# EAGLE library part ATSAMC21E18A (library washuracing)
5-Volt 32-Bit ARM Cortex M0+ MCU with CAN-FD
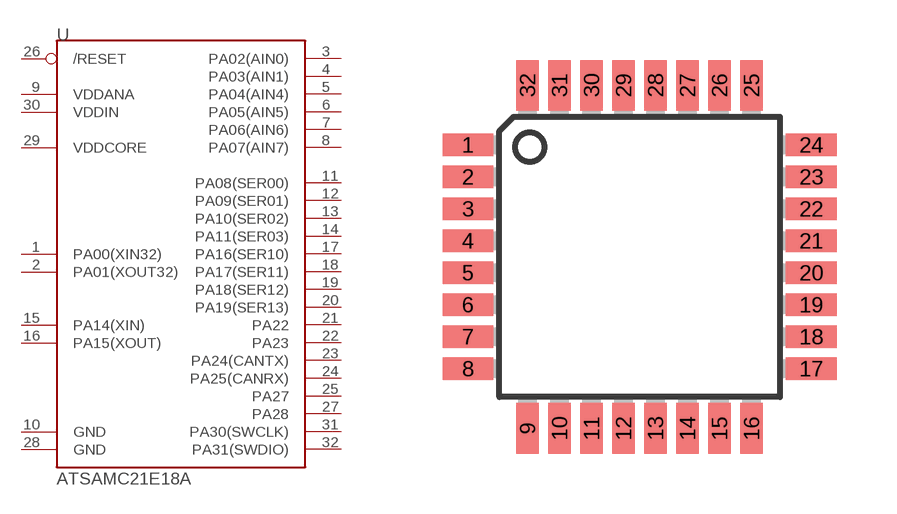
[diagram p0: symbol with the pads of TQFP32-08; footprint TQFP32-08]

Designator prefix U

## ATSAMC21E18A-AU  [TQFP32-08]
1  PA00(XIN32)
2  PA01(XOUT32)
3  PA02(AIN0)
4  PA03(AIN1)
5  PA04(AIN4)
6  PA05(AIN5)
7  PA06(AIN6)
8  PA07(AIN7)
9  VDDANA  pwr
10  GND  pwr
11  PA08(SER00)
12  PA09(SER01)
13  PA10(SER02)
14  PA11(SER03)
15  PA14(XIN)
16  PA15(XOUT)
17  PA16(SER10)
18  PA17(SER11)
19  PA18(SER12)
20  PA19(SER13)
21  PA22
22  PA23
23  PA24(CANTX)
24  PA25(CANRX)
25  PA27
26  /RESET  in
27  PA28
28  GND  pwr
29  VDDCORE  out
30  VDDIN  pwr
31  PA30(SWCLK)
32  PA31(SWDIO)

## Footprint TQFP32-08 (pad centres in mm)
Thin Plasic Quad Flat Package Grid 0.8 mm
smd 1.27 x 0.559: 1 -4.293,2.8; 2 -4.293,2; 3 -4.293,1.2; 4 -4.293,0.4; 5 -4.293,-0.4; 6 -4.293,-1.2; 7 -4.293,-2; 8 -4.293,-2.8; 17 4.293,-2.8; 18 4.293,-2; 19 4.293,-1.2; 20 4.293,-0.4; 21 4.293,0.4; 22 4.293,1.2; 23 4.293,2; 24 4.293,2.8
smd 0.559 x 1.27: 9 -2.8,-4.293; 10 -2,-4.293; 11 -1.2,-4.293; 12 -0.4,-4.293; 13 0.4,-4.293; 14 1.2,-4.293; 15 2,-4.293; 16 2.8,-4.293; 25 2.8,4.293; 26 2,4.293; 27 1.2,4.293; 28 0.4,4.293; 29 -0.4,4.293; 30 -1.2,4.293; 31 -2,4.293; 32 -2.8,4.293